# EAGLE library part DSPIC33FJ12GP201 (library 0SBLib)
18 pins High-Performance, 16-Bit Digital Signal Controller
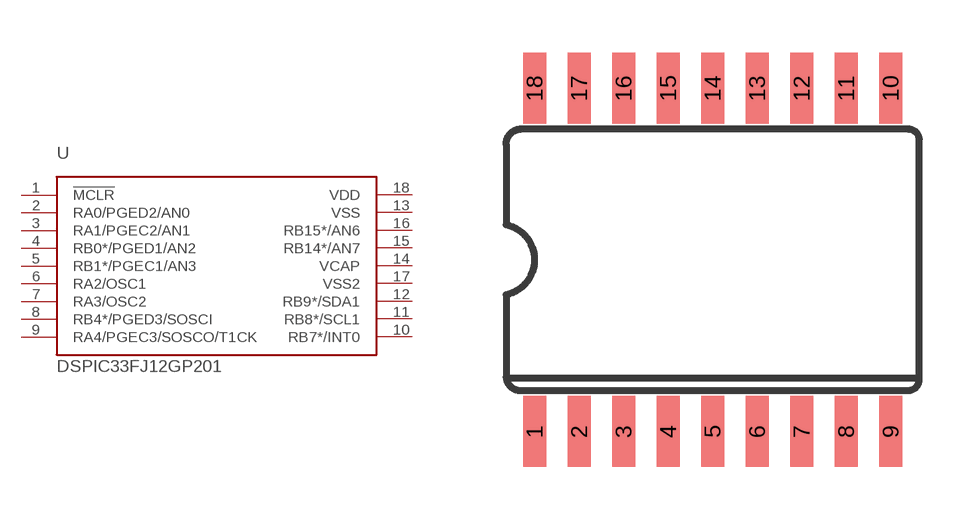
[diagram p28: symbol with the pads of SO18W; footprint SO18W]

Designator prefix -

## DSPIC33FJ12GP201SO  [SO18W]
1  !MCLR
2  RA0/PGED2/AN0
3  RA1/PGEC2/AN1
4  RB0*/PGED1/AN2
5  RB1*/PGEC1/AN3
6  RA2/OSC1
7  RA3/OSC2
8  RB4*/PGED3/SOSCI
9  RA4/PGEC3/SOSCO/T1CK
10  RB7*/INT0
11  RB8*/SCL1
12  RB9*/SDA1
13  VSS
14  VCAP
15  RB14*/AN7
16  RB15*/AN6
17  VSS2
18  VDD

## Footprint SO18W (pad centres in mm)
smd 0.66 x 2.032: 1 -0.635,-4.902; 2 0.635,-4.902; 3 1.905,-4.902; 4 3.175,-4.902; 5 4.445,-4.902; 6 5.715,-4.902; 7 6.985,-4.902; 8 8.255,-4.902; 9 9.525,-4.902; 10 9.525,4.902; 11 8.255,4.902; 12 6.985,4.902; 13 5.715,4.902; 14 4.445,4.902; 15 3.175,4.902; 16 1.905,4.902; 17 0.635,4.902; 18 -0.635,4.902